# Altium integrated library Kit-STM32F103C8T6.intlib: 1 symbol
Pins are listed as number, name and electrical type; pins without a type are passive.

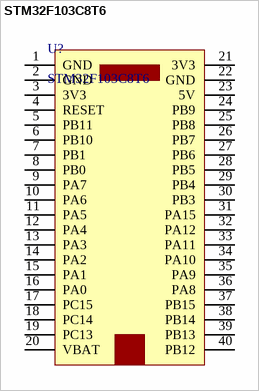
[diagram p0: symbol STM32F103C8T6]

## STM32F103C8T6
designator U?
footprint STM32F103C8T6
pins: 1 GND, 2 GND, 3 3V3, 4 RESET, 5 PB11, 6 PB10, 7 PB1, 8 PB0, 9 PA7, 10 PA6, 11 PA5, 12 PA4, 13 PA3, 14 PA2, 15 PA1, 16 PA0, 17 PC15, 18 PC14, 19 PC13, 20 VBAT, 21 3V3, 22 GND, 23 5V, 24 PB9, 25 PB8, 26 PB7, 27 PB6, 28 PB5, 29 PB4, 30 PB3, 31 PA15, 32 PA12, 33 PA11, 34 PA10, 35 PA9, 36 PA8, 37 PB15, 38 PB14, 39 PB13, 40 PB12